# EAGLE library part CAT4008 (library on-semi)
8-Channel Constant Current LED Driver The CAT4008 is an 8 channel constant current driver for LED billboard and other general display applications.
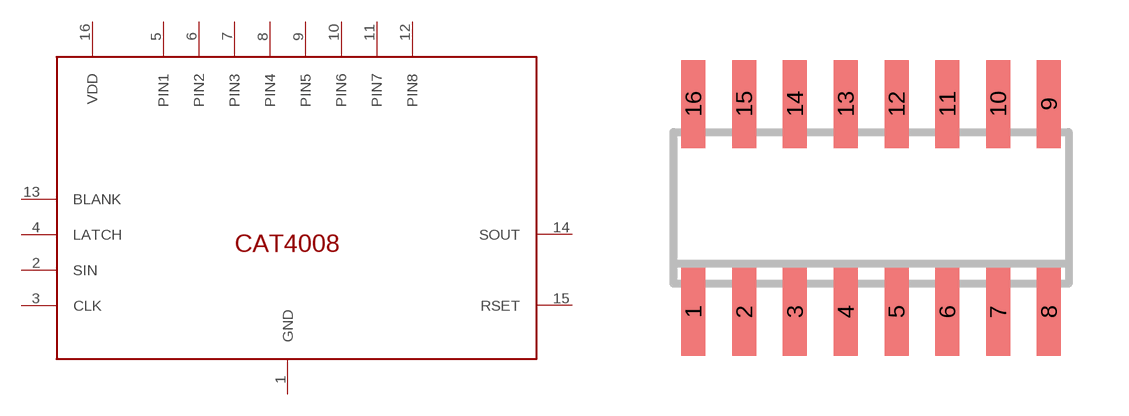
[diagram p0: symbol with the pads of SO16; footprint SO16]

Designator prefix -

## CAT4008  [SO16]
1  GND
2  SIN
3  CLK
4  LATCH
5  PIN1
6  PIN2
7  PIN3
8  PIN4
9  PIN5
10  PIN6
11  PIN7
12  PIN8
13  BLANK
14  SOUT
15  RSET
16  VDD

## Footprint SO16 (pad centres in mm)
SMALL OUTLINE INTEGRATED CIRCUIT body 3.9 mm/JEDEC MS-012AC
smd 0.6 x 2.2: 1 -4.445,-2.6; 2 -3.175,-2.6; 3 -1.905,-2.6; 4 -0.635,-2.6; 5 0.635,-2.6; 6 1.905,-2.6; 7 3.175,-2.6; 8 4.445,-2.6; 9 4.445,2.6; 10 3.175,2.6; 11 1.905,2.6; 12 0.635,2.6; 13 -0.635,2.6; 14 -1.905,2.6; 15 -3.175,2.6; 16 -4.445,2.6